# EAGLE library part D.SIGNT_D.MODULE.C6713 (library ##eigene)
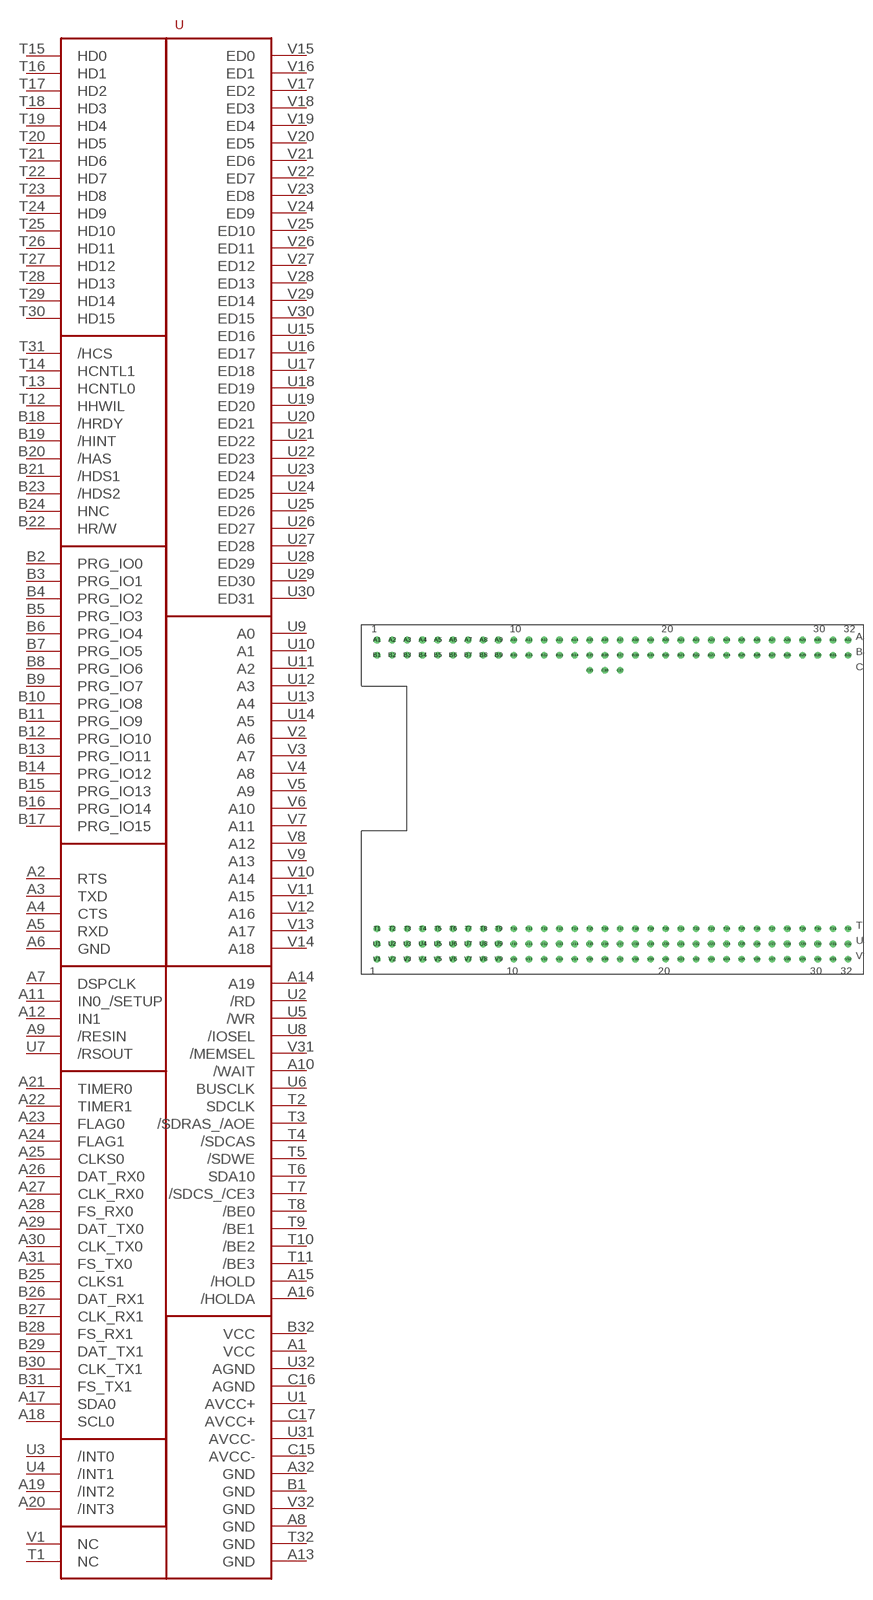
[diagram p2: symbol with the pads of C67XX_CONNECTOR; footprint C67XX_CONNECTOR]

Designator prefix -

## D.SIGNT_D.MODULE.C6713  [C67XX_CONNECTOR]
A1  VCC
A2  RTS
A3  TXD
A4  CTS
A5  RXD
A6  GND
A7  DSPCLK
A8  GND
A9  /RESIN
A10  /WAIT
A11  IN0_/SETUP
A12  IN1
A13  GND
A14  A19
A15  /HOLD
A16  /HOLDA
A17  SDA0
A18  SCL0
A19  /INT2
A20  /INT3
A21  TIMER0
A22  TIMER1
A23  FLAG0
A24  FLAG1
A25  CLKS0
A26  DAT_RX0
A27  CLK_RX0
A28  FS_RX0
A29  DAT_TX0
A30  CLK_TX0
A31  FS_TX0
A32  GND
B1  GND
B2  PRG_IO0
B3  PRG_IO1
B4  PRG_IO2
B5  PRG_IO3
B6  PRG_IO4
B7  PRG_IO5
B8  PRG_IO6
B9  PRG_IO7
B10  PRG_IO8
B11  PRG_IO9
B12  PRG_IO10
B13  PRG_IO11
B14  PRG_IO12
B15  PRG_IO13
B16  PRG_IO14
B17  PRG_IO15
B18  /HRDY
B19  /HINT
B20  /HAS
B21  /HDS1
B22  HR/W
B23  /HDS2
B24  HNC
B25  CLKS1
B26  DAT_RX1
B27  CLK_RX1
B28  FS_RX1
B29  DAT_TX1
B30  CLK_TX1
B31  FS_TX1
B32  VCC
C15  AVCC-
C16  AGND
C17  AVCC+
T1  NC  nc
T2  SDCLK
T3  /SDRAS_/AOE
T4  /SDCAS
T5  /SDWE
T6  SDA10
T7  /SDCS_/CE3
T8  /BE0
T9  /BE1
T10  /BE2
T11  /BE3
T12  HHWIL
T13  HCNTL0
T14  HCNTL1
T15  HD0
T16  HD1
T17  HD2
T18  HD3
T19  HD4
T20  HD5
T21  HD6
T22  HD7
T23  HD8
T24  HD9
T25  HD10
T26  HD11
T27  HD12
T28  HD13
T29  HD14
T30  HD15
T31  /HCS
T32  GND
U1  AVCC+
U2  /RD
U3  /INT0
U4  /INT1
U5  /WR
U6  BUSCLK
U7  /RSOUT
U8  /IOSEL
U9  A0
U10  A1
U11  A2
U12  A3
U13  A4
U14  A5
U15  ED16
U16  ED17
U17  ED18
U18  ED19
U19  ED20
U20  ED21
U21  ED22
U22  ED23
U23  ED24
U24  ED25
U25  ED26
U26  ED27
U27  ED28
U28  ED29
U29  ED30
U30  ED31
U31  AVCC-
U32  AGND
V1  NC  nc
V2  A6
V3  A7
V4  A8
V5  A9
V6  A10
V7  A11
V8  A12
V9  A13
V10  A14
V11  A15
V12  A16
V13  A17
V14  A18
V15  ED0
V16  ED1
V17  ED2
V18  ED3
V19  ED4
V20  ED5
V21  ED6
V22  ED7
V23  ED8
V24  ED9
V25  ED10
V26  ED11
V27  ED12
V28  ED13
V29  ED14
V30  ED15
V31  /MEMSEL
V32  GND

## Footprint C67XX_CONNECTOR (pad centres in mm)
drill 0.61 round: A1 2.54,-2.54; A2 5.08,-2.54; A3 7.62,-2.54; A4 10.16,-2.54; A5 12.7,-2.54; A6 15.24,-2.54; A7 17.78,-2.54; A8 20.32,-2.54; A9 22.86,-2.54; A10 25.4,-2.54; A11 27.94,-2.54; A12 30.48,-2.54; A13 33.02,-2.54; A14 35.56,-2.54; A15 38.1,-2.54; A16 40.64,-2.54; A17 43.18,-2.54; A18 45.72,-2.54; A19 48.26,-2.54; A20 50.8,-2.54; A21 53.34,-2.54; A22 55.88,-2.54; A23 58.42,-2.54; A24 60.96,-2.54; A25 63.5,-2.54; A26 66.04,-2.54; A27 68.58,-2.54; A28 71.12,-2.54; A29 73.66,-2.54; A30 76.2,-2.54; A31 78.74,-2.54; A32 81.28,-2.54; B1 2.54,-5.08; B2 5.08,-5.08; B3 7.62,-5.08; B4 10.16,-5.08; B5 12.7,-5.08; B6 15.24,-5.08; B7 17.78,-5.08; B8 20.32,-5.08; B9 22.86,-5.08; B10 25.4,-5.08; B11 27.94,-5.08; B12 30.48,-5.08; B13 33.02,-5.08; B14 35.56,-5.08; B15 38.1,-5.08; B16 40.64,-5.08; B17 43.18,-5.08; B18 45.72,-5.08; B19 48.26,-5.08; B20 50.8,-5.08; B21 53.34,-5.08; B22 55.88,-5.08; B23 58.42,-5.08; B24 60.96,-5.08; B25 63.5,-5.08; B26 66.04,-5.08; B27 68.58,-5.08; B28 71.12,-5.08; B29 73.66,-5.08; B30 76.2,-5.08; B31 78.74,-5.08; B32 81.28,-5.08; C15 38.1,-7.62; C16 40.64,-7.62; C17 43.18,-7.62; T1 2.54,-50.8; T2 5.08,-50.8; T3 7.62,-50.8; T4 10.16,-50.8; T5 12.7,-50.8; T6 15.24,-50.8; T7 17.78,-50.8; T8 20.32,-50.8; T9 22.86,-50.8; T10 25.4,-50.8; T11 27.94,-50.8; T12 30.48,-50.8; T13 33.02,-50.8; T14 35.56,-50.8; T15 38.1,-50.8; T16 40.64,-50.8; T17 43.18,-50.8; T18 45.72,-50.8; T19 48.26,-50.8; T20 50.8,-50.8; T21 53.34,-50.8; T22 55.88,-50.8; T23 58.42,-50.8; T24 60.96,-50.8; T25 63.5,-50.8; T26 66.04,-50.8; T27 68.58,-50.8; T28 71.12,-50.8; T29 73.66,-50.8; T30 76.2,-50.8; T31 78.74,-50.8; T32 81.28,-50.8; U1 2.54,-53.34; U2 5.08,-53.34; U3 7.62,-53.34; U4 10.16,-53.34; U5 12.7,-53.34; U6 15.24,-53.34; U7 17.78,-53.34; U8 20.32,-53.34; U9 22.86,-53.34; U10 25.4,-53.34; U11 27.94,-53.34; U12 30.48,-53.34; U13 33.02,-53.34; U14 35.56,-53.34; U15 38.1,-53.34; U16 40.64,-53.34; U17 43.18,-53.34; U18 45.72,-53.34; U19 48.26,-53.34; U20 50.8,-53.34; U21 53.34,-53.34; U22 55.88,-53.34; U23 58.42,-53.34; U24 60.96,-53.34; U25 63.5,-53.34; U26 66.04,-53.34; U27 68.58,-53.34; U28 71.12,-53.34; U29 73.66,-53.34; U30 76.2,-53.34; U31 78.74,-53.34; U32 81.28,-53.34; V1 2.54,-55.88; V2 5.08,-55.88; V3 7.62,-55.88; V4 10.16,-55.88; V5 12.7,-55.88; V6 15.24,-55.88; V7 17.78,-55.88; V8 20.32,-55.88; V9 22.86,-55.88; V10 25.4,-55.88; V11 27.94,-55.88; V12 30.48,-55.88; V13 33.02,-55.88; V14 35.56,-55.88; V15 38.1,-55.88; V16 40.64,-55.88; V17 43.18,-55.88; V18 45.72,-55.88; V19 48.26,-55.88; V20 50.8,-55.88; V21 53.34,-55.88; V22 55.88,-55.88; V23 58.42,-55.88; V24 60.96,-55.88; V25 63.5,-55.88; V26 66.04,-55.88; V27 68.58,-55.88; V28 71.12,-55.88; V29 73.66,-55.88; V30 76.2,-55.88; V31 78.74,-55.88; V32 81.28,-55.88